# Altium integrated library Linear Technology Power Management Hot Swap Controllers.IntLib: 992 symbols (part 38 of 93)
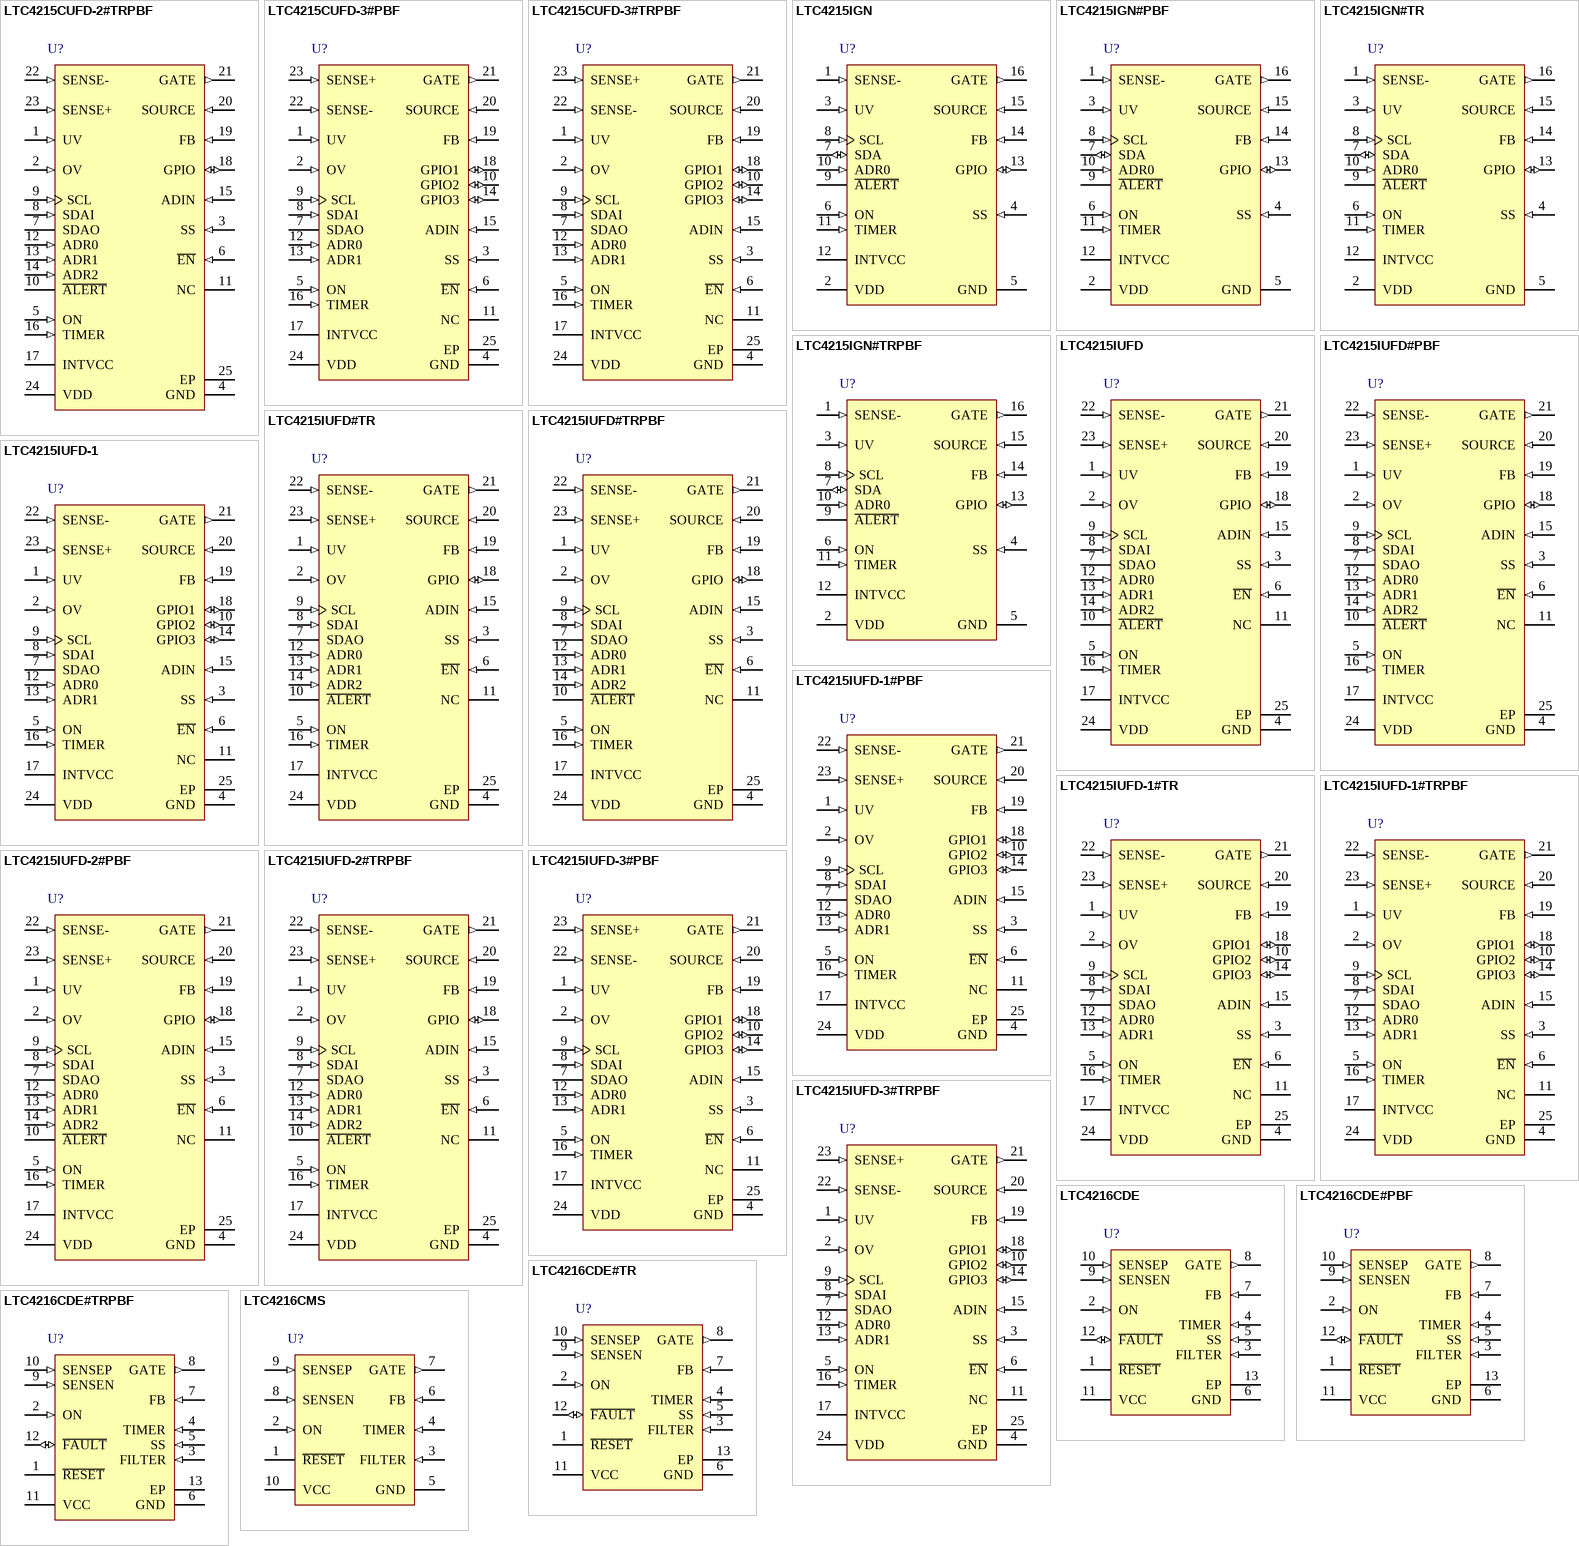
[diagram p74: symbols LTC4215CUFD-2#TRPBF to LTC4216CMS]

## LTC4215IUFD-1#TR
designator U?
Hot Swap Controller with I2C Compatible Monitoring, 2.9 to 15 V Vin, 24-pin QFN (UFD-24), -40 to 85 degC, Tape and Reel; Manufacturer: Linear Technology; PartNumber: LTC4215IUFD-1#TR; Active Limiting: yes; ADC: 8-bit; Circuit Breaker Accuracy(%): 10; Circuit Breaker Threshold: 25 mV; Circuit Breakers(#): 1; Extended Temp: C, I; Fast Comparator: no; In-Rush Current: Active / Controlled dI/dT; DatasheetVersion: Rev. C; PackageVersion: Rev. A, 06/2010; PackageReference: UFD-24; PackageDescription: 24-Pin Plastic QFN, Body 5 x 4 mm, Pitch 0.5 mm; Fault: no; Foldback: no; Packing: Tape and Reel; Power Good: yes; Reset: no; RoHS: FALSE; Vin Range: 2.9 to 15 V; Mounting Technology: Surface Mount; Code_JEDEC: MO-220; ComponentLink1Description: Manufacturer URL; ComponentLink1URL: http://www.linear.com/; ComponentLink2Description: Datasheet; ComponentLink2URL: http://cds.linear.com/docs/en/datasheet/421513fc.pdf; ComponentLink3Description: Package Specification; ComponentLink3URL: http://cds.linear.com/docs/en/packaging/QFN_24_05-08-1696.pdf
footprint LT-UFD-24_N (QFN, 24-Leads, Body 5.1x4.1mm, Pitch 0.5mm, Thermal Pad 3.65x2.65 mm, IPC Medium Density)
footprint LT-UFD-24_L (QFN, 24-Leads, Body 5.1x4.1mm, Pitch 0.5mm, Thermal Pad 3.65x2.65 mm, IPC High Density)
footprint LT-UFD-24_M (QFN, 24-Leads, Body 5.1x4.1mm, Pitch 0.5mm, Thermal Pad 3.65x2.65 mm, IPC Low Density)
pins: 1 UV (in) "Undervoltage Comparator Input. Connect this pin to an external resistive divider from VDD. If the voltage at this pin falls below 1.155V, an undervoltage fault is detected and the GATE turns off. Pulling this pin below 0.4V (See Datasheet)", 2 OV (in) "Overvoltage Comparator Input. Connect this pin to an external resistive divider from VDD. If the voltage at this pin rises above 1.235V, an overvoltage fault is detected and the GATE turns off. Tie to GND if unused.", 3 SS (in) "Soft Start Input. Sets the inrush current slew rate at start-up. Connect a 68nF capacitor to provide 5mV/ms as the slew rate for the sense voltage in start-up. This corresponds to 1A/ms with a 5mohm sense resistor. Note that (See Datasheet)", 4 GND (power) "Device Ground.", 5 ON (in) "On Control Input. A rising edge turns on the external N-channel MOSFET and a falling edge turns it off. This pin also configures the state of the FET On bit in the control register (and hence the external MOSFET) at power (See Datasheet)", 6 ~{EN} (in) "Enable Input. Ground this pin to indicate a board is present and enable the N-channel MOSFET to turn on. When this pin is high, the MOSFET is not allowed to turn on. An internal 10uA current source pulls up this pin. (See Datasheet)", 7 SDAO (oc) "Serial Bus Data Output. Open-drain output for sending data back to the master controller or acknowledging a write operation. Normally tied to SDAI to form the SDA line. An external pull-up resistor or current source is (See Datasheet)", 8 SDAI (in) "Serial Bus Data Input. A high impedance input for shifting in address, command or data bits. Normally tied to SDAO to form the SDA line.", 9 SCL (in) "Serial Bus Clock Input. Data at the SDA pin is shifted in or out on rising edges of SCL. This is a high impedance pin that is generally driven by an open-collector output from a master controller. An external pull-up (See Datasheet)", 10 GPIO2 (io) "General Purpose Input/Output and Fault Alert Output. Open drain logic output that is pulled to ground when bit D6 is set. Status register bit C5 indicates if GPIO2 is high or low. GPIO2 may be confi gured as an output that (See Datasheet)", 11 NC, 12 ADR0 (in) "Serial Bus Address Inputs. Tying these pins to ground, to the INTVCC pin or leaving open confi gures one of 9 possible addresses. See Table 1 in Applications Information.", 13 ADR1 (in) "Serial Bus Address Inputs. Tying these pins to ground, to the INTVCC pin or leaving open confi gures one of 9 possible addresses. See Table 1 in Applications Information.", 14 GPIO3 (io) "General Purpose Input/Output. Open drain logic output that is pulled to ground when bit D7 is set. Status register bit C2 indicates if GPIO3 is high or low. GPIO3 is confi gured as output low by default. See Applications (See Datasheet)", 15 ADIN (in) "ADC Input. A voltage between 0V and 1.235V applied to this pin is measured by the onboard ADC. Tie to ground if unused.", 16 TIMER (in) "Start-Up Timer Input. Connect a capacitor between this pin and ground to set a 12.3ms/uF duration for start-up, after which an overcurrent fault is logged if the inrush is still current limited. The duration of the off time (See Datasheet)", 17 INTVCC (power) "Low Voltage Supply Decoupling Output. Connect a 0.1uF capacitor from this pin to ground.", 18 GPIO1 (io) "General Purpose Input/Output and Signals Power Good/Bad. Open drain logic output that is pulled to ground if bit B6 is reset. Status register bit C6 indicates if GPIO1 is high or low. High impedance output (high) by default. (See Datasheet)", 19 FB (in) "Foldback Current Limit and Power Good Input. A resistive divider from the output is tied to this pin. When the voltage at this pin drops below 1.235V, power is not considered good. The power bad condition may result in the (See Datasheet)", 20 SOURCE (in) "N-channel MOSFET Source and ADC Input. Connect this pin to the source of the external N-channel MOSFET switch for gate drive return. This pin also serves as the ADC input to monitor output voltage. The pin provides a return (See Datasheet)", 21 GATE (out) "Gate Drive for External N-channel MOSFET. An internal 20uA current source charges the gate of the MOSFET. No compensation capacitor is required on the GATE pin, but a resistor and capacitor network from this pin to ground (See Datasheet)", 22 SENSE- (in) "Negative Current Sense Input. Connect this pin to the output of the current sense resistor. This pin provides sense voltage feedback and monitoring for the current limit, circuit breaker and ADC.", 23 SENSE+ (in) "Positive Current Sense Input. Connect this pin to the input of the current sense resistor. Must be connected Positive Current Sense Input. Connect this pin to the input of the current sense resistor. Must be connected to the (See Datasheet)", 24 VDD (power) "Supply Voltage Input. This pin has an undervoltage lockout threshold of 2.84V and overvoltage lockout threshold of 15.6V", 25 EP (power) "Exposed Pad may be left open or connected to device ground"

## LTC4215IUFD-1#TRPBF
designator U?
Hot Swap Controller with I2C Compatible Monitoring, 2.9 to 15 V Vin, 24-pin QFN (UFD-24), -40 to 85 degC, Pb-Free, Tape and Reel; Manufacturer: Linear Technology; PartNumber: LTC4215IUFD-1#TRPBF; Active Limiting: yes; ADC: 8-bit; Circuit Breaker Accuracy(%): 10; Circuit Breaker Threshold: 25 mV; Circuit Breakers(#): 1; Extended Temp: C, I; Fast Comparator: no; In-Rush Current: Active / Controlled dI/dT; DatasheetVersion: Rev. C; PackageVersion: Rev. A, 06/2010; PackageReference: UFD-24; PackageDescription: 24-Pin Plastic QFN, Body 5 x 4 mm, Pitch 0.5 mm; Supplier 1: Digi-Key; Supplier Part Number 1: LTC4215IUFD-1#TRPBF-ND; Fault: no; Foldback: no; Packing: Tape and Reel; Power Good: yes; Reset: no; RoHS: TRUE; Vin Range: 2.9 to 15 V; Mounting Technology: Surface Mount; Code_JEDEC: MO-220; ComponentLink1Description: Manufacturer URL; ComponentLink1URL: http://www.linear.com/; ComponentLink2Description: Datasheet; ComponentLink2URL: http://cds.linear.com/docs/en/datasheet/421513fc.pdf; ComponentLink3Description: Package Specification; ComponentLink3URL: http://cds.linear.com/docs/en/packaging/QFN_24_05-08-1696.pdf
footprint LT-UFD-24_N (QFN, 24-Leads, Body 5.1x4.1mm, Pitch 0.5mm, Thermal Pad 3.65x2.65 mm, IPC Medium Density)
footprint LT-UFD-24_L (QFN, 24-Leads, Body 5.1x4.1mm, Pitch 0.5mm, Thermal Pad 3.65x2.65 mm, IPC High Density)
footprint LT-UFD-24_M (QFN, 24-Leads, Body 5.1x4.1mm, Pitch 0.5mm, Thermal Pad 3.65x2.65 mm, IPC Low Density)
pins: 1 UV (in) "Undervoltage Comparator Input. Connect this pin to an external resistive divider from VDD. If the voltage at this pin falls below 1.155V, an undervoltage fault is detected and the GATE turns off. Pulling this pin below 0.4V (See Datasheet)", 2 OV (in) "Overvoltage Comparator Input. Connect this pin to an external resistive divider from VDD. If the voltage at this pin rises above 1.235V, an overvoltage fault is detected and the GATE turns off. Tie to GND if unused.", 3 SS (in) "Soft Start Input. Sets the inrush current slew rate at start-up. Connect a 68nF capacitor to provide 5mV/ms as the slew rate for the sense voltage in start-up. This corresponds to 1A/ms with a 5mohm sense resistor. Note that (See Datasheet)", 4 GND (power) "Device Ground.", 5 ON (in) "On Control Input. A rising edge turns on the external N-channel MOSFET and a falling edge turns it off. This pin also configures the state of the FET On bit in the control register (and hence the external MOSFET) at power (See Datasheet)", 6 ~{EN} (in) "Enable Input. Ground this pin to indicate a board is present and enable the N-channel MOSFET to turn on. When this pin is high, the MOSFET is not allowed to turn on. An internal 10uA current source pulls up this pin. (See Datasheet)", 7 SDAO (oc) "Serial Bus Data Output. Open-drain output for sending data back to the master controller or acknowledging a write operation. Normally tied to SDAI to form the SDA line. An external pull-up resistor or current source is (See Datasheet)", 8 SDAI (in) "Serial Bus Data Input. A high impedance input for shifting in address, command or data bits. Normally tied to SDAO to form the SDA line.", 9 SCL (in) "Serial Bus Clock Input. Data at the SDA pin is shifted in or out on rising edges of SCL. This is a high impedance pin that is generally driven by an open-collector output from a master controller. An external pull-up (See Datasheet)", 10 GPIO2 (io) "General Purpose Input/Output and Fault Alert Output. Open drain logic output that is pulled to ground when bit D6 is set. Status register bit C5 indicates if GPIO2 is high or low. GPIO2 may be confi gured as an output that (See Datasheet)", 11 NC, 12 ADR0 (in) "Serial Bus Address Inputs. Tying these pins to ground, to the INTVCC pin or leaving open confi gures one of 9 possible addresses. See Table 1 in Applications Information.", 13 ADR1 (in) "Serial Bus Address Inputs. Tying these pins to ground, to the INTVCC pin or leaving open confi gures one of 9 possible addresses. See Table 1 in Applications Information.", 14 GPIO3 (io) "General Purpose Input/Output. Open drain logic output that is pulled to ground when bit D7 is set. Status register bit C2 indicates if GPIO3 is high or low. GPIO3 is confi gured as output low by default. See Applications (See Datasheet)", 15 ADIN (in) "ADC Input. A voltage between 0V and 1.235V applied to this pin is measured by the onboard ADC. Tie to ground if unused.", 16 TIMER (in) "Start-Up Timer Input. Connect a capacitor between this pin and ground to set a 12.3ms/uF duration for start-up, after which an overcurrent fault is logged if the inrush is still current limited. The duration of the off time (See Datasheet)", 17 INTVCC (power) "Low Voltage Supply Decoupling Output. Connect a 0.1uF capacitor from this pin to ground.", 18 GPIO1 (io) "General Purpose Input/Output and Signals Power Good/Bad. Open drain logic output that is pulled to ground if bit B6 is reset. Status register bit C6 indicates if GPIO1 is high or low. High impedance output (high) by default. (See Datasheet)", 19 FB (in) "Foldback Current Limit and Power Good Input. A resistive divider from the output is tied to this pin. When the voltage at this pin drops below 1.235V, power is not considered good. The power bad condition may result in the (See Datasheet)", 20 SOURCE (in) "N-channel MOSFET Source and ADC Input. Connect this pin to the source of the external N-channel MOSFET switch for gate drive return. This pin also serves as the ADC input to monitor output voltage. The pin provides a return (See Datasheet)", 21 GATE (out) "Gate Drive for External N-channel MOSFET. An internal 20uA current source charges the gate of the MOSFET. No compensation capacitor is required on the GATE pin, but a resistor and capacitor network from this pin to ground (See Datasheet)", 22 SENSE- (in) "Negative Current Sense Input. Connect this pin to the output of the current sense resistor. This pin provides sense voltage feedback and monitoring for the current limit, circuit breaker and ADC.", 23 SENSE+ (in) "Positive Current Sense Input. Connect this pin to the input of the current sense resistor. Must be connected Positive Current Sense Input. Connect this pin to the input of the current sense resistor. Must be connected to the (See Datasheet)", 24 VDD (power) "Supply Voltage Input. This pin has an undervoltage lockout threshold of 2.84V and overvoltage lockout threshold of 15.6V", 25 EP (power) "Exposed Pad may be left open or connected to device ground"

## LTC4215IUFD-2#PBF
designator U?
Hot Swap Controller with I2C Compatible Monitoring, 2.9 to 15 V Vin, 24-pin QFN (UFD-24), -40 to 85 degC, Pb-Free; Manufacturer: Linear Technology; PartNumber: LTC4215IUFD-2#PBF; Active Limiting: yes; ADC: 8-bit; Circuit Breaker Accuracy(%): 10; Circuit Breaker Threshold: 25 mV; Circuit Breakers(#): 1; Extended Temp: C, I; Fast Comparator: no; In-Rush Current: Active / Controlled dI/dT; DatasheetVersion: Rev. E; PackageVersion: Rev. A, 06/2010; PackageReference: UFD-24; PackageDescription: 24-Pin Plastic QFN, Body 5 x 4 mm, Pitch 0.5 mm; Supplier 1: Digi-Key; Supplier Part Number 1: LTC4215IUFD-2#PBF-ND; Supplier 2: Farnell; Supplier Part Number 2: 2295331; Fault: yes; Foldback: yes; Power Good: yes; Reset: no; RoHS: TRUE; Vin Range: 2.9 to 15 V; Mounting Technology: Surface Mount; Code_JEDEC: MO-220; ComponentLink1Description: Manufacturer URL; ComponentLink1URL: http://www.linear.com/; ComponentLink2Description: Datasheet; ComponentLink2URL: http://cds.linear.com/docs/en/datasheet/4215fe.pdf; ComponentLink3Description: Package Specification; ComponentLink3URL: http://cds.linear.com/docs/en/packaging/QFN_24_05-08-1696.pdf
footprint LT-UFD-24_N (QFN, 24-Leads, Body 5.1x4.1mm, Pitch 0.5mm, Thermal Pad 3.65x2.65 mm, IPC Medium Density)
footprint LT-UFD-24_L (QFN, 24-Leads, Body 5.1x4.1mm, Pitch 0.5mm, Thermal Pad 3.65x2.65 mm, IPC High Density)
footprint LT-UFD-24_M (QFN, 24-Leads, Body 5.1x4.1mm, Pitch 0.5mm, Thermal Pad 3.65x2.65 mm, IPC Low Density)
pins: 1 UV (in) "Undervoltage Comparator Input. Connect this pin to an external resistive divider from VDD. If the voltage at this pin falls below 1.155V, an undervoltage fault is detected and the GATE turns off. Pulling this pin below 0.4V (See Datasheet)", 2 OV (in) "Overvoltage Comparator Input. Connect this pin to an external resistive divider from VDD. If the voltage at this pin rises above 1.235V, an overvoltage fault is detected and the GATE turns off. Tie to GND if unused.", 3 SS (in) "Soft Start Input. Sets the inrush current slew rate at start-up. Connect a 68nF capacitor to provide 5mV/ms as the slew rate for the sense voltage in start-up. This corresponds to 1A/ms with a 5mO sense resistor. Note that a (See Datasheet)", 4 GND (power) "Device Ground.", 5 ON (in) "On Control Input. A rising edge turns on the external N-channel MOSFET and a falling edge turns it off. This pin also configures the state of the FET On bit in the control register (and hence the external MOSFET) at power up.(See Datasheet)", 6 ~{EN} (in) "Enable Input. Ground this pin to indicate a board is present and enable the N-channel MOSFET to turn on. When this pin is high, the MOSFET is not allowed to turn on. An internal 10uA current source pulls up this pin. (See Datasheet)", 7 SDAO (oc) "Serial Bus Data Output. Open-drain output for sending data back to the master controller or acknowledging a write operation. Normally tied to SDAI to form the SDA line. An external pull-up resistor or current source is (See Datasheet)", 8 SDAI (in) "Serial Bus Data Input. A high impedance input for shifting in address, command or data bits. Normally tied to SDAO to form the SDA line.", 9 SCL (in) "Serial Bus Clock Input. Data at the SDA pin is shifted in or out on rising edges of SCL. This is a high impedance pin that is generally driven by an open-collector output from a master controller. An external pull-up (See Datasheet)", 10 ~{ALERT} (oc) "Fault Alert Output. Open-drain logic output that is pulled to ground when a fault occurs to alert the host controller. A fault alert is enabled by the A\L\E\R\T\ register. See Applications Information. Tie to ground if (See Datasheet)", 11 NC, 12 ADR0 (in) "Serial Bus Address Inputs. Tying these pins to ground, to the INTVCC pin or open confi gures one of 27 possible addresses. See Table 1 in Applications Information.", 13 ADR1 (in) "Serial Bus Address Inputs. Tying these pins to ground, to the INTVCC pin or open confi gures one of 27 possible addresses. See Table 1 in Applications Information.", 14 ADR2 (in) "Serial Bus Address Inputs. Tying these pins to ground, to the INTVCC pin or open confi gures one of 27 possible addresses. See Table 1 in Applications Information.", 15 ADIN (in) "ADC Input. A voltage between 0V and 1.235V applied to this pin is measured by the onboard ADC. Tie to ground if unused.", 16 TIMER (in) "Start-Up Timer Input. Connect a capacitor between this pin and ground to set a 12.3ms/uF duration for start-up, after which an overcurrent fault is logged if the inrush is still current limited. The duration of the off time (See Datasheet)", 17 INTVCC (power) "Low Voltage Supply Decoupling Output. Connect a 0.1uF capacitor from this pin to ground.", 18 GPIO (io) "General Purpose Input/Output. Open-drain logic output or logic input. Defaults to an output set to pull low to indicate power is not good. Configure according to Table 2 and 3.", 19 FB (in) "Foldback Current Limit and Power Good Input. A resistive divider from the output is tied to this pin. When the voltage at this pin drops below 1.235V, power is not considered good. The power bad condition may result in the (See Datasheet)", 20 SOURCE (in) "N-channel MOSFET Source and ADC Input. Connect this pin to the source of the external N-channel MOSFET switch for gate drive return. This pin also serves as the ADC input to monitor output voltage. The pin provides a return (See Datasheet)", 21 GATE (out) "Gate Drive for External N-channel MOSFET. An internal 20uA current source charges the gate of the MOSFET. No compensation capacitor is required on the GATE pin, but a resistor and capacitor network from this pin to ground (See Datasheet)", 22 SENSE- (in) "Negative Current Sense Input. Connect this pin to the output of the current sense resistor. This pin provides sense voltage feedback and monitoring for the current limit, circuit breaker and ADC.", 23 SENSE+ (in) "Positive Current Sense Input. Connect this pin to the input of the current sense resistor. Must be connected to the same trace as VDD. Internally tied to VDD in SSOP package.", 24 VDD (power) "Supply Voltage Input. This pin has an undervoltage lockout threshold of 2.84V and overvoltage lockout threshold of 15.6V", 25 EP (power) "Exposed Pad may be left open or connected to device ground"

## LTC4215IUFD-2#TRPBF
designator U?
Hot Swap Controller with I2C Compatible Monitoring, 2.9 to 15 V Vin, 24-pin QFN (UFD-24), -40 to 85 degC, Pb-Free, Tape and Reel; Manufacturer: Linear Technology; PartNumber: LTC4215IUFD-2#TRPBF; Active Limiting: yes; ADC: 8-bit; Circuit Breaker Accuracy(%): 10; Circuit Breaker Threshold: 25 mV; Circuit Breakers(#): 1; Extended Temp: C, I; Fast Comparator: no; In-Rush Current: Active / Controlled dI/dT; DatasheetVersion: Rev. E; PackageVersion: Rev. A, 06/2010; PackageReference: UFD-24; PackageDescription: 24-Pin Plastic QFN, Body 5 x 4 mm, Pitch 0.5 mm; Supplier 1: Digi-Key; Supplier Part Number 1: LTC4215IUFD-2#TRPBF-ND; Fault: yes; Foldback: yes; Packing: Tape and Reel; Power Good: yes; Reset: no; RoHS: TRUE; Vin Range: 2.9 to 15 V; Mounting Technology: Surface Mount; Code_JEDEC: MO-220; ComponentLink1Description: Manufacturer URL; ComponentLink1URL: http://www.linear.com/; ComponentLink2Description: Datasheet; ComponentLink2URL: http://cds.linear.com/docs/en/datasheet/4215fe.pdf; ComponentLink3Description: Package Specification; ComponentLink3URL: http://cds.linear.com/docs/en/packaging/QFN_24_05-08-1696.pdf
footprint LT-UFD-24_N (QFN, 24-Leads, Body 5.1x4.1mm, Pitch 0.5mm, Thermal Pad 3.65x2.65 mm, IPC Medium Density)
footprint LT-UFD-24_L (QFN, 24-Leads, Body 5.1x4.1mm, Pitch 0.5mm, Thermal Pad 3.65x2.65 mm, IPC High Density)
footprint LT-UFD-24_M (QFN, 24-Leads, Body 5.1x4.1mm, Pitch 0.5mm, Thermal Pad 3.65x2.65 mm, IPC Low Density)
pins: 1 UV (in) "Undervoltage Comparator Input. Connect this pin to an external resistive divider from VDD. If the voltage at this pin falls below 1.155V, an undervoltage fault is detected and the GATE turns off. Pulling this pin below 0.4V (See Datasheet)", 2 OV (in) "Overvoltage Comparator Input. Connect this pin to an external resistive divider from VDD. If the voltage at this pin rises above 1.235V, an overvoltage fault is detected and the GATE turns off. Tie to GND if unused.", 3 SS (in) "Soft Start Input. Sets the inrush current slew rate at start-up. Connect a 68nF capacitor to provide 5mV/ms as the slew rate for the sense voltage in start-up. This corresponds to 1A/ms with a 5mO sense resistor. Note that a (See Datasheet)", 4 GND (power) "Device Ground.", 5 ON (in) "On Control Input. A rising edge turns on the external N-channel MOSFET and a falling edge turns it off. This pin also configures the state of the FET On bit in the control register (and hence the external MOSFET) at power up.(See Datasheet)", 6 ~{EN} (in) "Enable Input. Ground this pin to indicate a board is present and enable the N-channel MOSFET to turn on. When this pin is high, the MOSFET is not allowed to turn on. An internal 10uA current source pulls up this pin. (See Datasheet)", 7 SDAO (oc) "Serial Bus Data Output. Open-drain output for sending data back to the master controller or acknowledging a write operation. Normally tied to SDAI to form the SDA line. An external pull-up resistor or current source is (See Datasheet)", 8 SDAI (in) "Serial Bus Data Input. A high impedance input for shifting in address, command or data bits. Normally tied to SDAO to form the SDA line.", 9 SCL (in) "Serial Bus Clock Input. Data at the SDA pin is shifted in or out on rising edges of SCL. This is a high impedance pin that is generally driven by an open-collector output from a master controller. An external pull-up (See Datasheet)", 10 ~{ALERT} (oc) "Fault Alert Output. Open-drain logic output that is pulled to ground when a fault occurs to alert the host controller. A fault alert is enabled by the A\L\E\R\T\ register. See Applications Information. Tie to ground if (See Datasheet)", 11 NC, 12 ADR0 (in) "Serial Bus Address Inputs. Tying these pins to ground, to the INTVCC pin or open confi gures one of 27 possible addresses. See Table 1 in Applications Information.", 13 ADR1 (in) "Serial Bus Address Inputs. Tying these pins to ground, to the INTVCC pin or open confi gures one of 27 possible addresses. See Table 1 in Applications Information.", 14 ADR2 (in) "Serial Bus Address Inputs. Tying these pins to ground, to the INTVCC pin or open confi gures one of 27 possible addresses. See Table 1 in Applications Information.", 15 ADIN (in) "ADC Input. A voltage between 0V and 1.235V applied to this pin is measured by the onboard ADC. Tie to ground if unused.", 16 TIMER (in) "Start-Up Timer Input. Connect a capacitor between this pin and ground to set a 12.3ms/uF duration for start-up, after which an overcurrent fault is logged if the inrush is still current limited. The duration of the off time (See Datasheet)", 17 INTVCC (power) "Low Voltage Supply Decoupling Output. Connect a 0.1uF capacitor from this pin to ground.", 18 GPIO (io) "General Purpose Input/Output. Open-drain logic output or logic input. Defaults to an output set to pull low to indicate power is not good. Configure according to Table 2 and 3.", 19 FB (in) "Foldback Current Limit and Power Good Input. A resistive divider from the output is tied to this pin. When the voltage at this pin drops below 1.235V, power is not considered good. The power bad condition may result in the (See Datasheet)", 20 SOURCE (in) "N-channel MOSFET Source and ADC Input. Connect this pin to the source of the external N-channel MOSFET switch for gate drive return. This pin also serves as the ADC input to monitor output voltage. The pin provides a return (See Datasheet)", 21 GATE (out) "Gate Drive for External N-channel MOSFET. An internal 20uA current source charges the gate of the MOSFET. No compensation capacitor is required on the GATE pin, but a resistor and capacitor network from this pin to ground (See Datasheet)", 22 SENSE- (in) "Negative Current Sense Input. Connect this pin to the output of the current sense resistor. This pin provides sense voltage feedback and monitoring for the current limit, circuit breaker and ADC.", 23 SENSE+ (in) "Positive Current Sense Input. Connect this pin to the input of the current sense resistor. Must be connected to the same trace as VDD. Internally tied to VDD in SSOP package.", 24 VDD (power) "Supply Voltage Input. This pin has an undervoltage lockout threshold of 2.84V and overvoltage lockout threshold of 15.6V", 25 EP (power) "Exposed Pad may be left open or connected to device ground"

## LTC4215IUFD-3#PBF
designator U?
Hot Swap Controller with I2C Compatible Monitoring, 2.9 to 15 V Vin, 24-pin QFN (UFD-24), -40 to 85 degC, Pb-Free; Manufacturer: Linear Technology; PartNumber: LTC4215IUFD-3#PBF; Active Limiting: yes; ADC: 8-bit; Circuit Breaker Accuracy(%): 10; Circuit Breaker Threshold: 25 mV; Circuit Breakers(#): 1; Extended Temp: C, I; Fast Comparator: no; In-Rush Current: Active / Controlled dI/dT; DatasheetVersion: Rev. C; PackageVersion: Rev. A, 06/2010; PackageReference: UFD-24; PackageDescription: 24-Pin Plastic QFN, Body 5 x 4 mm, Pitch 0.5 mm; Supplier 1: Digi-Key; Supplier Part Number 1: LTC4215IUFD-3#PBF-ND; Fault: no; Foldback: no; Power Good: yes; Reset: no; RoHS: TRUE; Vin Range: 2.9 to 15 V; Mounting Technology: Surface Mount; Code_JEDEC: MO-220; ComponentLink1Description: Manufacturer URL; ComponentLink1URL: http://www.linear.com/; ComponentLink2Description: Datasheet; ComponentLink2URL: http://cds.linear.com/docs/en/datasheet/421513fc.pdf; ComponentLink3Description: Package Specification; ComponentLink3URL: http://cds.linear.com/docs/en/packaging/QFN_24_05-08-1696.pdf
footprint LT-UFD-24_N (QFN, 24-Leads, Body 5.1x4.1mm, Pitch 0.5mm, Thermal Pad 3.65x2.65 mm, IPC Medium Density)
footprint LT-UFD-24_L (QFN, 24-Leads, Body 5.1x4.1mm, Pitch 0.5mm, Thermal Pad 3.65x2.65 mm, IPC High Density)
footprint LT-UFD-24_M (QFN, 24-Leads, Body 5.1x4.1mm, Pitch 0.5mm, Thermal Pad 3.65x2.65 mm, IPC Low Density)
pins: 1 UV (in) "Undervoltage Comparator Input. Connect this pin to an external resistive divider from VDD. If the voltage at this pin falls below 1.155V, an undervoltage fault is detected and the GATE turns off. Pulling this pin below 0.4V (See Datasheet)", 2 OV (in) "Overvoltage Comparator Input. Connect this pin to an external resistive divider from VDD. If the voltage at this pin rises above 1.235V, an overvoltage fault is detected and the GATE turns off. Tie to GND if unused.", 3 SS (in) "Soft Start Input. Sets the inrush current slew rate at start-up. Connect a 68nF capacitor to provide 5mV/ms as the slew rate for the sense voltage in start-up. This corresponds to 1A/ms with a 5mohm sense resistor. Note that (See Datasheet)", 4 GND (power) "Device Ground.", 5 ON (in) "On Control Input. A rising edge turns on the external N-channel MOSFET and a falling edge turns it off. This pin also confi gures the state of the FET On bit in the control register (and hence the external MOSFET) at power (See Datasheet)", 6 ~{EN} (in) "Enable Input. Ground this pin to indicate a board is present and enable the N-channel MOSFET to turn on. When this pin is high, the MOSFET is not allowed to turn on. An internal 10uA current source pulls up this pin. (See Datasheet)", 7 SDAO (oc) "Serial Bus Data Output. Open-drain output for sending data back to the master controller or acknowledging a write operation. Normally tied to SDAI to form the SDA line. An external pull-up resistor or current source is (See Datasheet)", 8 SDAI (in) "Serial Bus Data Input. A high impedance input for shifting in address, command or data bits. Normally tied to SDAO to form the SDA line.", 9 SCL (in) "Serial Bus Clock Input. Data at the SDA pin is shifted in or out on rising edges of SCL. This is a high impedance pin that is generally driven by an open-collector output from a master controller. An external pull-up (See Datasheet)", 10 GPIO2 (io) "General Purpose Input/Output and Fault Alert Output. Open drain logic output that is pulled to ground when bit D6 is set. Status register bit C5 indicates if GPIO2 is high or low. GPIO2 may be confi gured as an output that (See Datasheet)", 11 NC, 12 ADR0 (in) "Serial Bus Address Inputs. Tying these pins to ground, to the INTVCC pin or leaving open confi gures one of 9 possible addresses. See Table 1 in Applications Information.", 13 ADR1 (in) "Serial Bus Address Inputs. Tying these pins to ground, to the INTVCC pin or leaving open confi gures one of 9 possible addresses. See Table 1 in Applications Information.", 14 GPIO3 (io) "General Purpose Input/Output. Open drain logic output that is pulled to ground when bit D7 is set. Status register bit C2 indicates if GPIO3 is high or low. GPIO3 is confi gured as output low by default. See Applications (See Datasheet)", 15 ADIN (in) "ADC Input. A voltage between 0V and 1.235V applied to this pin is measured by the onboard ADC. Tie to ground if unused.", 16 TIMER (in) "Start-Up Timer Input. Connect a capacitor between this pin and ground to set a 12.3ms/uF duration for start-up, after which an overcurrent fault is logged if the inrush is still current limited. The duration of the off time (See Datasheet)", 17 INTVCC (power) "Low Voltage Supply Decoupling Output. Connect a 0.1uF capacitor from this pin to ground.", 18 GPIO1 (io) "General Purpose Input/Output and Signals Power Good/Bad. Open drain logic output that is pulled to ground if bit B6 is reset. Status register bit C6 indicates if GPIO1 is high or low. High impedance output (high) by default. (See Datasheet)", 19 FB (in) "Foldback Current Limit and Power Good Input. A resistive divider from the output is tied to this pin. When the voltage at this pin drops below 1.235V, power is not considered good. The power bad condition may result in the (See Datasheet)", 20 SOURCE (in) "N-channel MOSFET Source and ADC Input. Connect this pin to the source of the external N-channel MOSFET switch for gate drive return. This pin also serves as the ADC input to monitor output voltage. The pin provides a return (See Datasheet)", 21 GATE (out) "Gate Drive for External N-channel MOSFET. An internal 20uA current source charges the gate of the MOSFET. No compensation capacitor is required on the GATE pin, but a resistor and capacitor network from this pin to ground (See Datasheet)", 22 SENSE- (in) "Negative Current Sense Input. Connect this pin to the output of the current sense resistor. This pin provides sense voltage feedback and monitoring for the current limit, circuit breaker and ADC.", 23 SENSE+ (in) "Positive Current Sense Input. Connect this pin to the input of the current sense resistor. Must be connected Positive Current Sense Input. Connect this pin to the input of the current sense resistor. Must be connected to the (See Datasheet)", 24 VDD (power) "Supply Voltage Input. This pin has an undervoltage lockout threshold of 2.84V and overvoltage lockout threshold of 15.6V", 25 EP (power) "Exposed Pad may be left open or connected to device ground"

## LTC4215IUFD-3#TRPBF
designator U?
Hot Swap Controller with I2C Compatible Monitoring, 2.9 to 15 V Vin, 24-pin QFN (UFD-24), -40 to 85 degC, Pb-Free, Tape and Reel; Manufacturer: Linear Technology; PartNumber: LTC4215IUFD-3#TRPBF; Active Limiting: yes; ADC: 8-bit; Circuit Breaker Accuracy(%): 10; Circuit Breaker Threshold: 25 mV; Circuit Breakers(#): 1; Extended Temp: C, I; Fast Comparator: no; In-Rush Current: Active / Controlled dI/dT; DatasheetVersion: Rev. C; PackageVersion: Rev. A, 06/2010; PackageReference: UFD-24; PackageDescription: 24-Pin Plastic QFN, Body 5 x 4 mm, Pitch 0.5 mm; Supplier 1: Digi-Key; Supplier Part Number 1: LTC4215IUFD-3#TRPBF-ND; Fault: no; Foldback: no; Packing: Tape and Reel; Power Good: yes; Reset: no; RoHS: TRUE; Vin Range: 2.9 to 15 V; Mounting Technology: Surface Mount; Code_JEDEC: MO-220; ComponentLink1Description: Manufacturer URL; ComponentLink1URL: http://www.linear.com/; ComponentLink2Description: Datasheet; ComponentLink2URL: http://cds.linear.com/docs/en/datasheet/421513fc.pdf; ComponentLink3Description: Package Specification; ComponentLink3URL: http://cds.linear.com/docs/en/packaging/QFN_24_05-08-1696.pdf
footprint LT-UFD-24_N (QFN, 24-Leads, Body 5.1x4.1mm, Pitch 0.5mm, Thermal Pad 3.65x2.65 mm, IPC Medium Density)
footprint LT-UFD-24_L (QFN, 24-Leads, Body 5.1x4.1mm, Pitch 0.5mm, Thermal Pad 3.65x2.65 mm, IPC High Density)
footprint LT-UFD-24_M (QFN, 24-Leads, Body 5.1x4.1mm, Pitch 0.5mm, Thermal Pad 3.65x2.65 mm, IPC Low Density)
pins: 1 UV (in) "Undervoltage Comparator Input. Connect this pin to an external resistive divider from VDD. If the voltage at this pin falls below 1.155V, an undervoltage fault is detected and the GATE turns off. Pulling this pin below 0.4V (See Datasheet)", 2 OV (in) "Overvoltage Comparator Input. Connect this pin to an external resistive divider from VDD. If the voltage at this pin rises above 1.235V, an overvoltage fault is detected and the GATE turns off. Tie to GND if unused.", 3 SS (in) "Soft Start Input. Sets the inrush current slew rate at start-up. Connect a 68nF capacitor to provide 5mV/ms as the slew rate for the sense voltage in start-up. This corresponds to 1A/ms with a 5mohm sense resistor. Note that (See Datasheet)", 4 GND (power) "Device Ground.", 5 ON (in) "On Control Input. A rising edge turns on the external N-channel MOSFET and a falling edge turns it off. This pin also confi gures the state of the FET On bit in the control register (and hence the external MOSFET) at power (See Datasheet)", 6 ~{EN} (in) "Enable Input. Ground this pin to indicate a board is present and enable the N-channel MOSFET to turn on. When this pin is high, the MOSFET is not allowed to turn on. An internal 10uA current source pulls up this pin. (See Datasheet)", 7 SDAO (oc) "Serial Bus Data Output. Open-drain output for sending data back to the master controller or acknowledging a write operation. Normally tied to SDAI to form the SDA line. An external pull-up resistor or current source is (See Datasheet)", 8 SDAI (in) "Serial Bus Data Input. A high impedance input for shifting in address, command or data bits. Normally tied to SDAO to form the SDA line.", 9 SCL (in) "Serial Bus Clock Input. Data at the SDA pin is shifted in or out on rising edges of SCL. This is a high impedance pin that is generally driven by an open-collector output from a master controller. An external pull-up (See Datasheet)", 10 GPIO2 (io) "General Purpose Input/Output and Fault Alert Output. Open drain logic output that is pulled to ground when bit D6 is set. Status register bit C5 indicates if GPIO2 is high or low. GPIO2 may be confi gured as an output that (See Datasheet)", 11 NC, 12 ADR0 (in) "Serial Bus Address Inputs. Tying these pins to ground, to the INTVCC pin or leaving open confi gures one of 9 possible addresses. See Table 1 in Applications Information.", 13 ADR1 (in) "Serial Bus Address Inputs. Tying these pins to ground, to the INTVCC pin or leaving open confi gures one of 9 possible addresses. See Table 1 in Applications Information.", 14 GPIO3 (io) "General Purpose Input/Output. Open drain logic output that is pulled to ground when bit D7 is set. Status register bit C2 indicates if GPIO3 is high or low. GPIO3 is confi gured as output low by default. See Applications (See Datasheet)", 15 ADIN (in) "ADC Input. A voltage between 0V and 1.235V applied to this pin is measured by the onboard ADC. Tie to ground if unused.", 16 TIMER (in) "Start-Up Timer Input. Connect a capacitor between this pin and ground to set a 12.3ms/uF duration for start-up, after which an overcurrent fault is logged if the inrush is still current limited. The duration of the off time (See Datasheet)", 17 INTVCC (power) "Low Voltage Supply Decoupling Output. Connect a 0.1uF capacitor from this pin to ground.", 18 GPIO1 (io) "General Purpose Input/Output and Signals Power Good/Bad. Open drain logic output that is pulled to ground if bit B6 is reset. Status register bit C6 indicates if GPIO1 is high or low. High impedance output (high) by default. (See Datasheet)", 19 FB (in) "Foldback Current Limit and Power Good Input. A resistive divider from the output is tied to this pin. When the voltage at this pin drops below 1.235V, power is not considered good. The power bad condition may result in the (See Datasheet)", 20 SOURCE (in) "N-channel MOSFET Source and ADC Input. Connect this pin to the source of the external N-channel MOSFET switch for gate drive return. This pin also serves as the ADC input to monitor output voltage. The pin provides a return (See Datasheet)", 21 GATE (out) "Gate Drive for External N-channel MOSFET. An internal 20uA current source charges the gate of the MOSFET. No compensation capacitor is required on the GATE pin, but a resistor and capacitor network from this pin to ground (See Datasheet)", 22 SENSE- (in) "Negative Current Sense Input. Connect this pin to the output of the current sense resistor. This pin provides sense voltage feedback and monitoring for the current limit, circuit breaker and ADC.", 23 SENSE+ (in) "Positive Current Sense Input. Connect this pin to the input of the current sense resistor. Must be connected Positive Current Sense Input. Connect this pin to the input of the current sense resistor. Must be connected to the (See Datasheet)", 24 VDD (power) "Supply Voltage Input. This pin has an undervoltage lockout threshold of 2.84V and overvoltage lockout threshold of 15.6V", 25 EP (power) "Exposed Pad may be left open or connected to device ground"

## LTC4216CDE
designator U?
Ultralow Voltage Hot Swap Controller, 0 to 6 V Vin, 12-pin SON (DE-UE-12), 0 to 70 degC; Manufacturer: Linear Technology; PartNumber: LTC4216CDE; Active Limiting: yes; Circuit Breaker Accuracy(%): 14; Circuit Breaker Threshold: 25 mV; Circuit Breakers(#): 1; Extended Temp: C, I; Fast Comparator: no; In-Rush Current: Active/SS; Vin Range: 0 to 6 V; DatasheetVersion: Rev. A; PackageVersion: Rev. D, 06/2010; PackageReference: DE-UE-12; PackageDescription: 12-Pin Plastic DFN, Body 4 x 3 mm, Pitch 0.5 mm; Fault: yes; Foldback: no; Power Good: no; Reset: yes; RoHS: FALSE; Mounting Technology: Surface Mount; Code_JEDEC: MO-229; ComponentLink1Description: Manufacturer URL; ComponentLink1URL: http://www.linear.com/; ComponentLink2Description: Datasheet; ComponentLink2URL: http://cds.linear.com/docs/en/datasheet/4216fa.pdf; ComponentLink3Description: Package Specification; ComponentLink3URL: http://cds.linear.com/docs/en/packaging/DFN_12_05-08-1695.pdf
footprint LT-DE-UE-12_V (SON, 12-Leads, Body 4x3mm, Pitch 0.5mm, Thermal Pad 3.3x1.7mm)
pins: 1 ~{RESET} (hiz) "Reset or Power-Good Output. Open drain output that pulls low if the FB pin voltage falls below its threshold (0.6V). During the start-up cycle, the R\E\S\E\T\ pin goes high impedance at the end of the second timing cycle (See Datasheet)", 2 ON (in) "ON Control Input. A rising edge above the ON pin threshold (0.8V) initiates the start-up cycle and turns on the external N-channel MOSFET. A falling edge below 0.72V (80mV ON pin hysteresis) turns it off. If this pin is (See Datasheet)", 3 FILTER (in) "Fault Filter Input. Connect a capacitor between this pin and ground to set up the fault filter delay. This pin sources 60uA or sinks 2.4uA when the voltage across the sense resistor exceeds 25mV or drops below 25mV (See Datasheet)", 4 TIMER (in) "Timer Input. Connect a capacitor between this pin and ground to set up the start-up timing cycle duration. It also defines the R\E\S\E\T\ power-good delay from the instant the FB pin voltage exceeds 0.6V. This pin sources (See Datasheet)", 5 SS (in) "Soft-Start Control Input. Connect a capacitor between this pin and ground for soft-start during power-up. It controls the GATE ramp up, limiting the rate of change of the inrush current when the external MOSFET turns on. If (See Datasheet)", 6 GND (power) "Device Ground.", 7 FB (in) "Output Monitor for Reset Output. A resistive divider from the external MOSFET’s source terminal is tied to this pin. When the voltage at this pin drops below 0.6V, the R\E\S\E\T\ pin pulls low. The FB comparator fallin(See Datasheet)", 8 GATE (out) "Gate Drive for External N-Channel MOSFET. An internal charge pump provides 20uA gate pull-up current and sufficient gate overdrive to the external MOSFET. An internal shunt regulator limits the GATE pin voltage to about 6.2V (See Datasheet)", 9 SENSEN (in) "Circuit Breaker Negative Sense Input. Connect this pin to the sense resistor terminal wired to the drain of the external N-channel MOSFET. The sense resistor is placed in the power path between SENSEP and SENSEN pins to (See Datasheet)", 10 SENSEP (in) "Circuit Breaker Positive Sense Input. Connect this pin to the sense resistor terminal wired to the positive supply input for the external output load. This positive supply range extends from 0V to 6V.", 11 VCC (power) "Bias Supply Input. Operates from 2.3V to 6V. An internal undervoltage lockout circuit disables the device until the input supply voltage at VCC exceeds 2.12V typically.", 12 ~{FAULT} (io) "Fault Input and Output. As an input, driving this pin low (<1.253V) will latch-off the device to fault mode. As an output, it is either pulled high by an internal 5uA pull-up or an external pull-up resistor to positive (See Datasheet)", 13 EP (power) "Exposed pad may be left open or connected to device ground."

## LTC4216CDE#PBF
designator U?
Ultralow Voltage Hot Swap Controller, 0 to 6 V Vin, 12-pin SON (DE-UE-12), 0 to 70 degC, Pb-Free; Manufacturer: Linear Technology; PartNumber: LTC4216CDE#PBF; Active Limiting: yes; Circuit Breaker Accuracy(%): 14; Circuit Breaker Threshold: 25 mV; Circuit Breakers(#): 1; Extended Temp: C, I; Fast Comparator: no; In-Rush Current: Active/SS; Vin Range: 0 to 6 V; DatasheetVersion: Rev. A; PackageVersion: Rev. D, 06/2010; PackageReference: DE-UE-12; PackageDescription: 12-Pin Plastic DFN, Body 4 x 3 mm, Pitch 0.5 mm; Supplier 1: Digi-Key; Supplier Part Number 1: LTC4216CDE#PBF-ND; Supplier 2: Farnell; Supplier Part Number 2: 2295332; Fault: yes; Foldback: no; Power Good: no; Reset: yes; RoHS: TRUE; Mounting Technology: Surface Mount; Code_JEDEC: MO-229; ComponentLink1Description: Manufacturer URL; ComponentLink1URL: http://www.linear.com/; ComponentLink2Description: Datasheet; ComponentLink2URL: http://cds.linear.com/docs/en/datasheet/4216fa.pdf; ComponentLink3Description: Package Specification; ComponentLink3URL: http://cds.linear.com/docs/en/packaging/DFN_12_05-08-1695.pdf
footprint LT-DE-UE-12_V (SON, 12-Leads, Body 4x3mm, Pitch 0.5mm, Thermal Pad 3.3x1.7mm)
pins: 1 ~{RESET} (hiz) "Reset or Power-Good Output. Open drain output that pulls low if the FB pin voltage falls below its threshold (0.6V). During the start-up cycle, the R\E\S\E\T\ pin goes high impedance at the end of the second timing cycle (See Datasheet)", 2 ON (in) "ON Control Input. A rising edge above the ON pin threshold (0.8V) initiates the start-up cycle and turns on the external N-channel MOSFET. A falling edge below 0.72V (80mV ON pin hysteresis) turns it off. If this pin is (See Datasheet)", 3 FILTER (in) "Fault Filter Input. Connect a capacitor between this pin and ground to set up the fault filter delay. This pin sources 60uA or sinks 2.4uA when the voltage across the sense resistor exceeds 25mV or drops below 25mV (See Datasheet)", 4 TIMER (in) "Timer Input. Connect a capacitor between this pin and ground to set up the start-up timing cycle duration. It also defines the R\E\S\E\T\ power-good delay from the instant the FB pin voltage exceeds 0.6V. This pin sources (See Datasheet)", 5 SS (in) "Soft-Start Control Input. Connect a capacitor between this pin and ground for soft-start during power-up. It controls the GATE ramp up, limiting the rate of change of the inrush current when the external MOSFET turns on. If (See Datasheet)", 6 GND (power) "Device Ground.", 7 FB (in) "Output Monitor for Reset Output. A resistive divider from the external MOSFET’s source terminal is tied to this pin. When the voltage at this pin drops below 0.6V, the R\E\S\E\T\ pin pulls low. The FB comparator fallin(See Datasheet)", 8 GATE (out) "Gate Drive for External N-Channel MOSFET. An internal charge pump provides 20uA gate pull-up current and sufficient gate overdrive to the external MOSFET. An internal shunt regulator limits the GATE pin voltage to about 6.2V (See Datasheet)", 9 SENSEN (in) "Circuit Breaker Negative Sense Input. Connect this pin to the sense resistor terminal wired to the drain of the external N-channel MOSFET. The sense resistor is placed in the power path between SENSEP and SENSEN pins to (See Datasheet)", 10 SENSEP (in) "Circuit Breaker Positive Sense Input. Connect this pin to the sense resistor terminal wired to the positive supply input for the external output load. This positive supply range extends from 0V to 6V.", 11 VCC (power) "Bias Supply Input. Operates from 2.3V to 6V. An internal undervoltage lockout circuit disables the device until the input supply voltage at VCC exceeds 2.12V typically.", 12 ~{FAULT} (io) "Fault Input and Output. As an input, driving this pin low (<1.253V) will latch-off the device to fault mode. As an output, it is either pulled high by an internal 5uA pull-up or an external pull-up resistor to positive (See Datasheet)", 13 EP (power) "Exposed pad may be left open or connected to device ground."